# EAGLE library part 40PIN_FEMALE_HEADER (library FEMALE_PIN_HEADER_2x20)
40 Pin Female Header CONN FEMALE 40POS DL .1" R/A TIN Datasheet: http://www.sullinscorp.com/drawings/101_xPxCxx2LJBN-RC,_10494-C.pdf
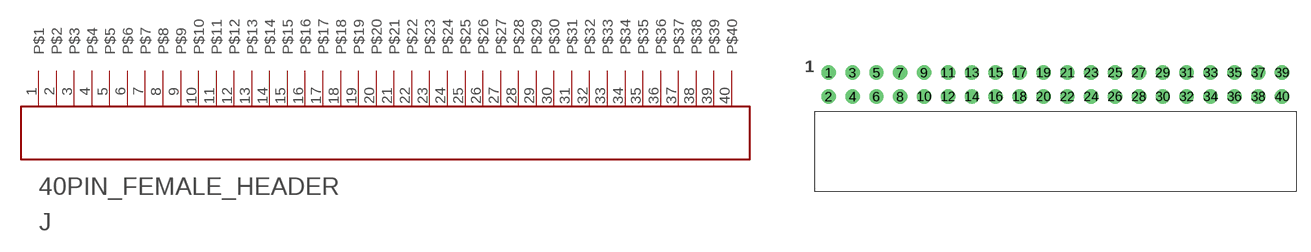
[diagram p0: symbol with the pads of 2X20; footprint 2X20]

Designator prefix J

## 40PIN_FEMALE_HEADER  [2X20]
1  P$1
2  P$2
3  P$3
4  P$4
5  P$5
6  P$6
7  P$7
8  P$8
9  P$9
10  P$10
11  P$11
12  P$12
13  P$13
14  P$14
15  P$15
16  P$16
17  P$17
18  P$18
19  P$19
20  P$20
21  P$21
22  P$22
23  P$23
24  P$24
25  P$25
26  P$26
27  P$27
28  P$28
29  P$29
30  P$30
31  P$31
32  P$32
33  P$33
34  P$34
35  P$35
36  P$36
37  P$37
38  P$38
39  P$39
40  P$40

## Footprint 2X20 (pad centres in mm)
2 x 20 right angle female pin header - 0.1" pitch
drill 1.02: 1 -25.4,1.27; 2 -25.4,-1.27; 3 -22.86,1.27; 4 -22.86,-1.27; 5 -20.32,1.27; 6 -20.32,-1.27; 7 -17.78,1.27; 8 -17.78,-1.27; 9 -15.24,1.27; 10 -15.24,-1.27; 11 -12.7,1.27; 12 -12.7,-1.27; 13 -10.16,1.27; 14 -10.16,-1.27; 15 -7.62,1.27; 16 -7.62,-1.27; 17 -5.08,1.27; 18 -5.08,-1.27; 19 -2.54,1.27; 20 -2.54,-1.27; 21 0,1.27; 22 0,-1.27; 23 2.54,1.27; 24 2.54,-1.27; 25 5.08,1.27; 26 5.08,-1.27; 27 7.62,1.27; 28 7.62,-1.27; 29 10.16,1.27; 30 10.16,-1.27; 31 12.7,1.27; 32 12.7,-1.27; 33 15.24,1.27; 34 15.24,-1.27; 35 17.78,1.27; 36 17.78,-1.27; 37 20.32,1.27; 38 20.32,-1.27; 39 22.86,1.27; 40 22.86,-1.27